# Altium footprint library PCB1_1.PcbLib: 23 footprints (part 2 of 2)
Each footprint in its own frame and in the unit in brackets; x right, y up, seen from the top. Pads: shape width x height; smd on the part's side, far side on the other; paste and mask are expansions set on the pad; w line width, h text height; cw(c..) or ccw(c..) is an arc to the next point about the centre after c.
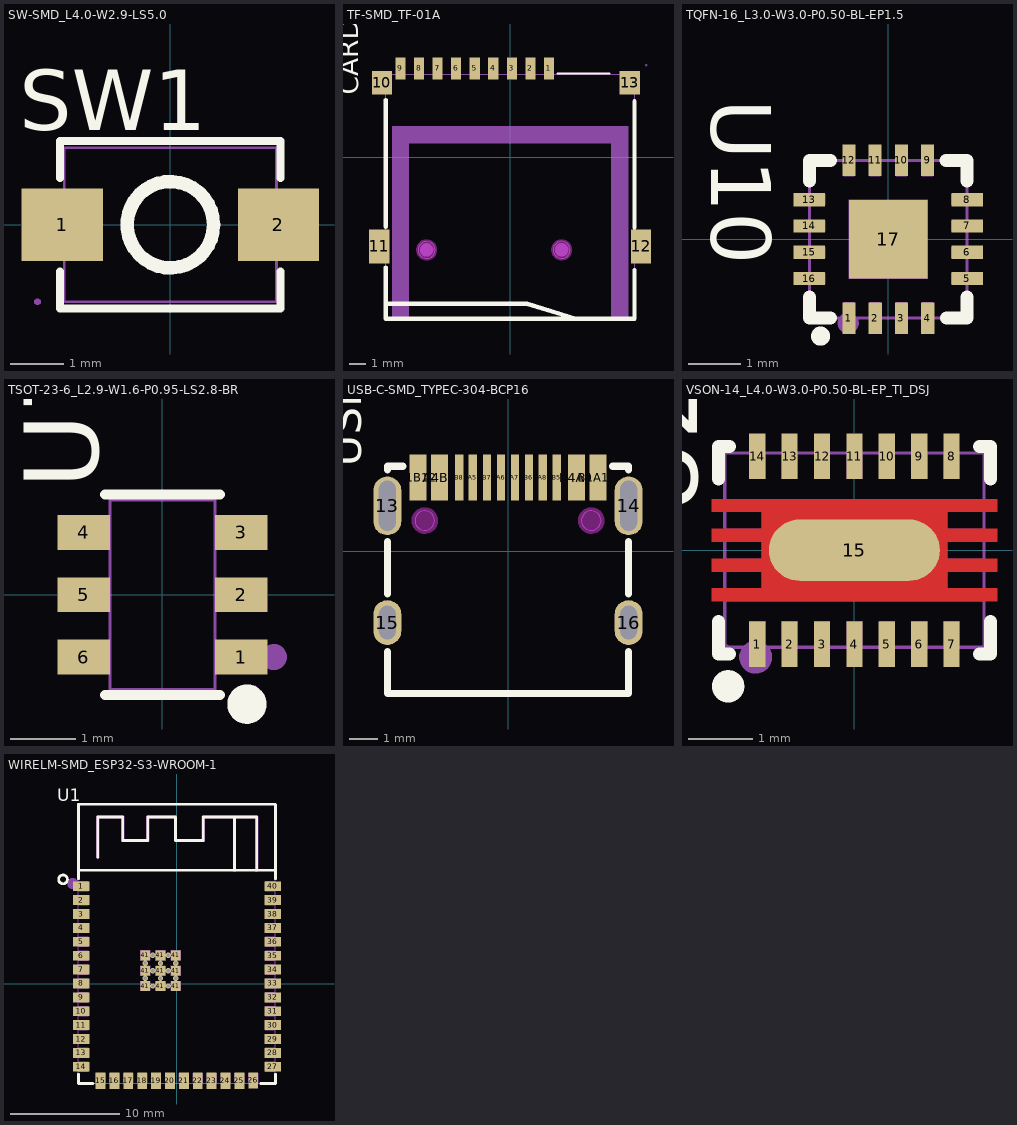
[diagram p1: the footprints below, top view; thin cyan lines are the x and y axes]

## SW-SMD_L4.0-W2.9-LS5.0 [mm]
pads (2):
  rect 1.53x1.36 smd paste+0 mask+0.051: 1(-2.035,0) 2(2.035,0)
Top Overlay:
  circle w0.254: c0,0 r0.813
  lines w0.152: -2.076,-0.883 -2.076,-1.576 2.076,-1.576 2.076,-0.883 ; -2.076,0.883 -2.076,1.576 2.076,1.576 2.076,0.883
  text "SW1" at -2.851,1.779 h1.14
Mechanical 15:
  region: -2.5,0.65 -2.5,-0.65 -1.3,-0.65 -1.3,0.65
  region: 2.5,0.65 2.5,-0.65 1.3,-0.65 1.3,0.65
  region: -2.44,-1.45 -2.44,-1.425 -2.475,-1.39 -2.525,-1.39 -2.56,-1.425 -2.56,-1.45 -2.56,-1.475 -2.525,-1.51 -2.475,-1.51 -2.44,-1.475 -2.44,-1.45
  lines w0.051: -2,-1.45 -2,1.45 2,1.45 2,-1.45 -2,-1.45

## TF-SMD_TF-01A [mm]
pads (13):
  rect 0.6x1.3 smd paste+0 mask+0.051: 1(2.301,5.276) 2(1.201,5.276) 3(0.101,5.276) 4(-0.999,5.276) 5(-2.099,5.276) 6(-3.199,5.276) 7(-4.299,5.276) 8(-5.399,5.276) 9(-6.499,5.276)
  rect 1.2x1.4 smd paste+0 mask+0.051: 10(-7.599,4.426) 13(7.081,4.426)
  rect 1.2x2 smd paste+0 mask+0.051: 11(-7.76,-5.276) 12(7.76,-5.276)
Top Overlay:
  lines w0.102: 2.786,4.972 5.885,4.973
  lines w0.254: -7.366,-9.091 -7.366,-8.667 1,-8.666 3.937,-9.563 ; -7.366,-6.516 -7.366,-9.564 7.366,-9.564 7.366,-6.666 ; -7.366,-4.103 -7.366,3.406 ; 7.366,-4.167 7.366,3.326
  text "CARD1" at -9.015,3.708 h1.14
Keep-Out Layer:
  board cut-out: 3.05,-4.975 2.951,-4.975 2.767,-5.052 2.626,-5.192 2.55,-5.376 2.55,-5.575 2.626,-5.759 2.767,-5.899 2.95,-5.975 3.05,-5.976 3.149,-5.976 3.333,-5.899 3.474,-5.759 3.55,-5.575 3.55,-5.376 3.474,-5.192 3.333,-5.052 3.149,-4.975 3.05,-4.975
  board cut-out: -4.95,-4.978 -5.049,-4.978 -5.233,-5.054 -5.374,-5.195 -5.45,-5.378 -5.45,-5.577 -5.374,-5.761 -5.233,-5.902 -5.05,-5.978 -4.95,-5.978 -4.851,-5.978 -4.667,-5.902 -4.526,-5.761 -4.45,-5.578 -4.45,-5.379 -4.526,-5.195 -4.667,-5.054 -4.851,-4.978 -4.95,-4.978
Keep-Out Layer:
  circle w0.254: c3.05,-5.475 r0.5
  circle w0.005: c3.05,-5.475 r0.5
  circle w0.254: c-4.95,-5.478 r0.5
  circle w0.005: c-4.95,-5.478 r0.5
Mechanical 1:
  circle w0.005: c3.05,-5.475 r0.5
  circle w0.005: c-4.95,-5.478 r0.5
Mechanical 6:
  circle w0.4: c-4.95,-5.478 r0.2
  circle w0.4: c3.05,-5.475 r0.2
  region: -6,1.834 6,1.834 6,0.834 -6,0.834
  region: 7,-9.666 7,1.834 6,1.834 6,-9.666
  region: -7,-9.666 -7,1.834 -6,1.834 -6,-9.666 -7,-9.666
Mechanical 15:
  region: -6.684,4.924 -6.684,5.474 -6.314,5.474 -6.314,4.924
  region: 6.66,4.926 7.31,4.926 7.31,3.926 6.66,3.926
  region: -8.05,-4.476 -7.35,-4.476 -7.35,-6.076 -8.05,-6.076
  region: 7.35,-6.076 7.35,-4.476 8.05,-4.476 8.05,-6.076
  region: -7.95,3.926 -7.95,4.926 -7.25,4.926 -7.25,3.926
  region: -5.58,4.924 -5.58,5.474 -5.21,5.474 -5.21,4.924
  region: -4.482,4.924 -4.482,5.474 -4.112,5.474 -4.112,4.924
  region: -3.386,4.914 -3.386,4.984 -3.016,4.984 -3.016,4.914
  region: -3.386,4.924 -3.386,5.474 -3.016,5.474 -3.016,4.924
  region: -2.288,4.914 -2.288,4.984 -1.918,4.984 -1.918,4.914
  region: -2.288,4.924 -2.288,5.474 -1.918,5.474 -1.918,4.924
  region: -1.189,4.924 -1.189,5.474 -0.819,5.474 -0.819,4.924
  region: -0.089,4.924 -0.089,5.474 0.28,5.474 0.28,4.924
  region: 1.007,4.924 1.007,5.474 1.377,5.474 1.377,4.924
  region: 2.107,4.924 2.107,5.474 2.477,5.474 2.477,4.924
  region: 8.05,5.534 8.025,5.534 7.99,5.499 7.99,5.449 8.025,5.414 8.05,5.414 8.075,5.414 8.11,5.449 8.11,5.499 8.075,5.534 8.05,5.534
  lines w0.051: -7.38,-9.575 7.38,-9.575 7.38,4.925 -7.38,4.925 -7.38,-9.575

## TQFN-16_L3.0-W3.0-P0.50-BL-EP1.5 [mm]
pads (17):
  rect 0.25x0.6 smd paste-100 mask+0.051: 1(-0.748,-1.5) 2(-0.249,-1.5) 3(0.252,-1.5) 4(0.751,-1.5) 9(0.75,1.5) 10(0.25,1.5) 11(-0.25,1.5) 12(-0.748,1.5)
  rect 0.6x0.25 smd paste-100 mask+0.051: 5(1.5,-0.748) 6(1.5,-0.248) 7(1.5,0.252) 8(1.5,0.752) 13(-1.5,0.752) 14(-1.5,0.252) 15(-1.5,-0.248) 16(-1.5,-0.748)
  rect 1.5x1.5 smd paste-100 mask+0.051: 17(0,0)
Top Overlay:
  circle w0.254: c-1.289,-1.845 r0.054
  lines w0.254: -1.5,-1.104 -1.5,-1.5 -1.105,-1.5 ; -1.5,1.108 -1.5,1.5 -1.105,1.5 ; 1.106,1.5 1.5,1.5 1.5,1.108 ; 1.108,-1.5 1.5,-1.5 1.5,-1.104
  text "U10" at -3.371,2.668 h1.14
Top Paste:
  region: -0.6,-0.6 -0.6,0.6 0.6,0.6 0.6,-0.6
  region: -0.623,-1.8 -0.873,-1.8 -0.873,-1.2 -0.623,-1.2
  region: -0.123,-1.8 -0.373,-1.8 -0.373,-1.2 -0.123,-1.2
  region: 0.377,-1.8 0.127,-1.8 0.127,-1.2 0.377,-1.2
  region: 0.877,-1.8 0.627,-1.8 0.627,-1.2 0.877,-1.2
  region: 1.8,-0.623 1.8,-0.873 1.2,-0.873 1.2,-0.623
  region: 1.8,-0.123 1.8,-0.373 1.2,-0.373 1.2,-0.123
  region: 1.8,0.377 1.8,0.127 1.2,0.127 1.2,0.377
  region: 1.8,0.877 1.8,0.627 1.2,0.627 1.2,0.877
  region: 0.625,1.8 0.875,1.8 0.875,1.2 0.625,1.2
  region: 0.125,1.8 0.375,1.8 0.375,1.2 0.125,1.2
  region: -0.375,1.8 -0.125,1.8 -0.125,1.2 -0.375,1.2
  region: -0.873,1.8 -0.623,1.8 -0.623,1.2 -0.873,1.2
  region: -1.8,0.627 -1.8,0.877 -1.2,0.877 -1.2,0.627
  region: -1.8,0.127 -1.8,0.377 -1.2,0.377 -1.2,0.127
  region: -1.8,-0.373 -1.8,-0.123 -1.2,-0.123 -1.2,-0.373
  region: -1.8,-0.873 -1.8,-0.623 -1.2,-0.623 -1.2,-0.873
Mechanical 6:
  circle w0.2: c-0.762,-1.596 r0.1
Mechanical 15:
  region: -1.5,-1.56 -1.476,-1.559 -1.442,-1.524 -1.442,-1.476 -1.476,-1.441 -1.5,-1.44 -1.524,-1.441 -1.558,-1.476 -1.558,-1.524 -1.524,-1.559 -1.5,-1.56
  region: -0.75,-0.75 -0.75,0.75 0.75,0.75 0.75,-0.75
  region: -1.2,-0.648 -1.2,-0.848 -1.5,-0.848 -1.5,-0.648
  region: -1.2,-0.148 -1.2,-0.348 -1.5,-0.348 -1.5,-0.148
  region: -1.2,0.352 -1.2,0.152 -1.5,0.152 -1.5,0.352
  region: -1.2,0.852 -1.2,0.652 -1.5,0.652 -1.5,0.852
  region: -0.848,1.5 -0.648,1.5 -0.648,1.2 -0.848,1.2
  region: -0.35,1.5 -0.15,1.5 -0.15,1.2 -0.35,1.2
  region: 0.15,1.5 0.35,1.5 0.35,1.2 0.15,1.2
  region: 0.65,1.5 0.85,1.5 0.85,1.2 0.65,1.2
  region: 1.2,0.652 1.2,0.852 1.5,0.852 1.5,0.652
  region: 1.2,0.152 1.2,0.352 1.5,0.352 1.5,0.152
  region: 1.2,-0.348 1.2,-0.148 1.5,-0.148 1.5,-0.348
  region: 1.2,-0.848 1.2,-0.648 1.5,-0.648 1.5,-0.848
  region: 0.851,-1.5 0.651,-1.5 0.651,-1.2 0.851,-1.2
  region: 0.352,-1.5 0.152,-1.5 0.152,-1.2 0.352,-1.2
  region: -0.149,-1.5 -0.349,-1.5 -0.349,-1.2 -0.149,-1.2
  region: -0.648,-1.5 -0.848,-1.5 -0.848,-1.2 -0.648,-1.2
  lines w0.051: -1.5,-1.5 -1.5,1.5 1.5,1.5 1.5,-1.5 -1.5,-1.5

## TSOT-23-6_L2.9-W1.6-P0.95-LS2.8-BR [mil]
pads (6):
  rect 31.5x20.9 smd paste+0 mask+2: 1(47.2,-37.4) 2(47.2,0) 3(47.2,37.4) 4(-47.2,37.4) 5(-47.2,0) 6(-47.2,-37.4)
Top Overlay:
  circle w11.8: c50.7,-65.7 r5.9
  lines w6: -34.5,-60.1 34.5,-60.1 ; -34.5,60.1 34.5,60.1
  text "U7" at -38.66,63.56 h45
Mechanical 6:
  circle w7.9: c66.9,-37.4 r3.9
Mechanical 15:
  region: -37.8,-45.3 -37.8,-29.5 -31.1,-29.5 -31.1,-45.3
  region: -37.4,-45.3 -37.4,-29.5 -55.1,-29.5 -55.1,-45.3
  region: -37.8,-7.9 -37.8,7.9 -31.1,7.9 -31.1,-7.9
  region: -37.4,-7.9 -37.4,7.9 -55.1,7.9 -55.1,-7.9
  region: -37.8,29.5 -37.8,45.3 -31.1,45.3 -31.1,29.5
  region: -37.4,29.5 -37.4,45.3 -55.1,45.3 -55.1,29.5
  region: 31.1,29.5 31.1,45.3 37.8,45.3 37.8,29.5
  region: 37.4,29.5 37.4,45.3 55.1,45.3 55.1,29.5
  region: 31.1,-7.9 31.1,7.9 37.8,7.9 37.8,-7.9
  region: 37.4,-7.9 37.4,7.9 55.1,7.9 55.1,-7.9
  region: 31.1,-45.3 31.1,-29.5 37.8,-29.5 37.8,-45.3
  region: 37.4,-45.3 37.4,-29.5 55.1,-29.5 55.1,-45.3
  region: 55.1,-54.7 54.13,-54.73 52.78,-56.13 52.78,-58.07 54.13,-59.46 55.1,-59.5 56.07,-59.46 57.42,-58.07 57.42,-56.13 56.07,-54.73 55.1,-54.7
  lines w2: -31.5,-57.1 31.5,-57.1 31.5,57.1 -31.5,57.1 -31.5,-57.1

## USB-C-SMD_TYPEC-304-BCP16 [mm]
pads (16):
  oval 1x2.1 hole 0.6 slot 1.8 at 90 deg paste+0 mask+0.102: 13(-4.32,1.633)
  oval 1x2.1 hole 0.6 slot 1.8 at 90 deg copper offset 0,0 paste+0 mask+0.102: 14(4.32,1.633)
  oval 1x1.6 hole 0.6 slot 1.2 at 90 deg paste+0 mask+0.102: 15(-4.32,-2.548)
  oval 1x1.6 hole 0.6 slot 1.2 at 90 deg copper offset 0,0 paste+0 mask+0.102: 16(4.32,-2.548)
  rect 0.6x1.65 smd paste+0 mask+0.102: A1B12(-3.225,2.64) A4B9(-2.45,2.64) B1A12(3.22,2.64) B4A9(2.45,2.64)
  rect 0.3x1.65 smd paste+0 mask+0.102: A5(-1.26,2.64) A6(-0.25,2.64) A7(0.25,2.64) A8(1.25,2.64) B5(1.75,2.64) B6(0.75,2.64) B7(-0.75,2.64) B8(-1.75,2.64)
Top Overlay:
  lines w0.254: -4.318,-3.579 -4.318,-5.08 4.318,-5.08 4.318,-3.579 ; -4.318,-1.516 -4.318,0.351 ; -4.318,2.914 -4.318,3.048 -3.756,3.048 ; 3.751,3.048 4.318,3.048 4.318,2.914 ; 4.318,-1.516 4.318,0.351
  text "USB1" at -5.245,3.036 h1.14
Keep-Out Layer:
  board cut-out: -2.98,1.452 -3.049,1.451 -3.176,1.397 -3.273,1.299 -3.325,1.171 -3.325,1.033 -3.273,0.906 -3.176,0.808 -3.049,0.753 -2.98,0.752 -2.911,0.753 -2.784,0.808 -2.688,0.906 -2.635,1.033 -2.635,1.171 -2.688,1.299 -2.784,1.397 -2.911,1.451 -2.98,1.452
  board cut-out: 2.98,1.452 2.911,1.451 2.784,1.397 2.687,1.299 2.635,1.171 2.635,1.033 2.687,0.906 2.784,0.808 2.911,0.753 2.98,0.752 3.049,0.753 3.176,0.808 3.273,0.906 3.325,1.033 3.325,1.171 3.272,1.299 3.176,1.397 3.049,1.451 2.98,1.452
Keep-Out Layer:
  circle w0.254: c-2.98,1.102 r0.35
  circle w0.005: c-2.98,1.102 r0.35
  circle w0.254: c2.98,1.102 r0.35
  circle w0.005: c2.98,1.102 r0.35
Mechanical 1:
  circle w0.005: c-2.98,1.102 r0.35
  circle w0.005: c2.98,1.102 r0.35

## VSON-14_L4.0-W3.0-P0.50-BL-EP_TI_DSJ [mm]
pads (15):
  rect 0.25x0.7 smd paste+0 mask+0.051: 1(-1.5,-1.45) 2(-1,-1.45) 3(-0.5,-1.45) 4(0,-1.45) 5(0.5,-1.45) 6(1,-1.45) 7(1.5,-1.45) 8(1.5,1.45) 9(1,1.45) 10(0.5,1.45) 11(0,1.45) 12(-0.5,1.45) 13(-1,1.45) 14(-1.5,1.45)
  oval 2.64x0.948 smd: 15(0,0)
Top Layer:
  region: -2.2,0.79 -2.2,0.59 -1.43,0.59 -1.43,0.33 -2.2,0.33 -2.2,0.13 -1.43,0.13 -1.43,-0.13 -2.2,-0.13 -2.2,-0.33 -1.43,-0.33 -1.43,-0.59 -2.2,-0.59 -2.2,-0.79 2.2,-0.79 2.2,-0.59 1.43,-0.59 1.43,-0.33 2.2,-0.33 2.2,-0.13 1.43,-0.13 1.43,0.13 2.2,0.13 2.2,0.33 1.43,0.33 1.43,0.59 2.2,0.59 2.2,0.79
Top Overlay:
  lines w0.2: -2.1,-1.1 -2.1,-1.6 -1.93,-1.6 ; -2.1,1.1 -2.1,1.6 -1.93,1.6 ; 1.93,-1.6 2.1,-1.6 2.1,-1.1 ; 1.93,1.6 2.1,1.6 2.1,1.1
  lines w0.25: -1.951,-1.976 ccw(c-1.949,-2.101) -1.948,-1.976
  text "U2" at -2.43,0.548 h1.14
Mechanical 6:
  circle w0.254: c-1.524,-1.651 r0.127
Mechanical 15:
  region: -1.62,-1.1 -1.38,-1.1 -1.38,-1.5 -1.62,-1.5
  region: -1.12,-1.1 -0.88,-1.1 -0.88,-1.5 -1.12,-1.5
  region: -0.62,-1.1 -0.38,-1.1 -0.38,-1.5 -0.62,-1.5
  region: -0.12,-1.1 0.12,-1.1 0.12,-1.5 -0.12,-1.5
  region: 0.38,-1.1 0.62,-1.1 0.62,-1.5 0.38,-1.5
  region: 1.38,-1.1 1.62,-1.1 1.62,-1.5 1.38,-1.5
  region: 0.88,-1.1 1.12,-1.1 1.12,-1.5 0.88,-1.5
  region: 0.62,1.1 0.38,1.1 0.38,1.5 0.62,1.5
  region: 0.12,1.1 -0.12,1.1 -0.12,1.5 0.12,1.5
  region: -0.38,1.1 -0.62,1.1 -0.62,1.5 -0.38,1.5
  region: -0.88,1.1 -1.12,1.1 -1.12,1.5 -0.88,1.5
  region: -1.38,1.1 -1.62,1.1 -1.62,1.5 -1.38,1.5
  region: 1.38,1.5 1.62,1.5 1.62,1.1 1.38,1.1
  region: 0.88,1.5 1.12,1.5 1.12,1.1 0.88,1.1
  region: -2,0.79 -2,0.59 -1.43,0.59 -1.43,0.33 -2,0.33 -2,0.13 -1.43,0.13 -1.43,-0.13 -2,-0.13 -2,-0.33 -1.43,-0.33 -1.43,-0.59 -2,-0.59 -2,-0.79 2,-0.79 2,-0.59 1.43,-0.59 1.43,-0.33 2,-0.33 2,-0.13 1.43,-0.13 1.43,0.13 2,0.13 2,0.33 1.43,0.33 1.43,0.59 2,0.59 2,0.79 -2,0.79
  region: -2,-1.44 -2.024,-1.441 -2.059,-1.476 -2.059,-1.524 -2.024,-1.559 -2,-1.56 -1.976,-1.559 -1.941,-1.524 -1.941,-1.476 -1.976,-1.441 -2,-1.44
  lines w0.051: -2,-1.5 2,-1.5 2,1.5 -2,1.5 -2,-1.5

## WIRELM-SMD_ESP32-S3-WROOM-1 [mm]
pads (49):
  rect 1.5x0.9 smd paste+0 mask+0.05: 1(-8.75,8.895) 2(-8.75,7.625) 3(-8.75,6.355) 4(-8.75,5.085) 5(-8.75,3.815) 6(-8.75,2.545) 7(-8.75,1.275) 8(-8.75,0.005) 9(-8.75,-1.265) 10(-8.75,-2.535) 11(-8.75,-3.805) 12(-8.75,-5.075) 13(-8.75,-6.345) 14(-8.75,-7.615) 27(8.75,-7.615) 28(8.75,-6.345) 29(8.75,-5.075) 30(8.75,-3.805) 31(8.75,-2.535) 32(8.75,-1.265) 33(8.75,0.005) 34(8.75,1.275) 35(8.75,2.545) 36(8.75,3.815) 37(8.75,5.085) 38(8.75,6.355) 39(8.75,7.625) 40(8.75,8.895)
  rect 0.9x1.5 smd paste+0 mask+0.05: 15(-6.985,-8.895) 16(-5.715,-8.895) 17(-4.445,-8.895) 18(-3.175,-8.895) 19(-1.905,-8.895) 20(-0.635,-8.895) 21(0.635,-8.895) 22(1.905,-8.895) 23(3.175,-8.895) 24(4.445,-8.895) 25(5.715,-8.895) 26(6.985,-8.865)
  rect 0.9x0.9 smd paste+0 mask+0.051: 41(-2.9,-0.225) 41(-2.9,1.175) 41(-2.9,2.575) 41(-1.5,-0.225) 41(-1.5,1.175) 41(-1.5,2.575) 41(-0.1,-0.225) 41(-0.1,1.175) 41(-0.1,2.575)
via -0.8,-0.225 diameter 0.5 hole 0.3
via -2.2,-0.225 diameter 0.5 hole 0.3
via -2.2,1.175 diameter 0.5 hole 0.3
via -0.8,1.175 diameter 0.5 hole 0.3
via -0.8,2.575 diameter 0.5 hole 0.3
via -0.1,1.875 diameter 0.5 hole 0.3
via -0.1,0.475 diameter 0.5 hole 0.3
via -2.9,0.475 diameter 0.5 hole 0.3
via -2.9,1.875 diameter 0.5 hole 0.3
via -2.2,2.575 diameter 0.5 hole 0.3
via -1.5,0.475 diameter 0.5 hole 0.3
via -1.5,1.875 diameter 0.5 hole 0.3
Top Overlay:
  circle w0.254: c-10.414,9.525 r0.402
  lines w0.254: -9,-8.296 -9,-9.144 -7.666,-9.144 ; -9,9.576 -9,16.395 9,16.395 ; -9,10.355 9.017,10.355 ; -7.239,11.557 -7.239,15.24 -4.953,15.24 -4.953,13.081 -2.667,13.081 -2.667,15.24 -0.127,15.24 -0.127,13.081 2.413,13.081 2.413,15.24 5.265,15.24 5.265,10.355 ; 5.062,15.24 7.297,15.24 7.297,10.355 ; 7.666,-9.144 9.017,-9.144 9.017,-8.296 ; 9.017,9.576 9.017,16.383
  text "U1" at -10.943,16.649 h1.14
Mechanical 6:
  drawing of 2 lines, arcs and shapes, not listed
Mechanical 15:
  drawing of 54 lines, arcs and shapes, not listed